# Altium footprint library Sheet1.PcbLib: 42 footprints (part 3 of 3)
Each footprint in its own frame and in the unit in brackets; x right, y up, seen from the top. Pads: shape width x height; smd on the part's side, far side on the other; paste and mask are expansions set on the pad; w line width, h text height; cw(c..) or ccw(c..) is an arc to the next point about the centre after c.
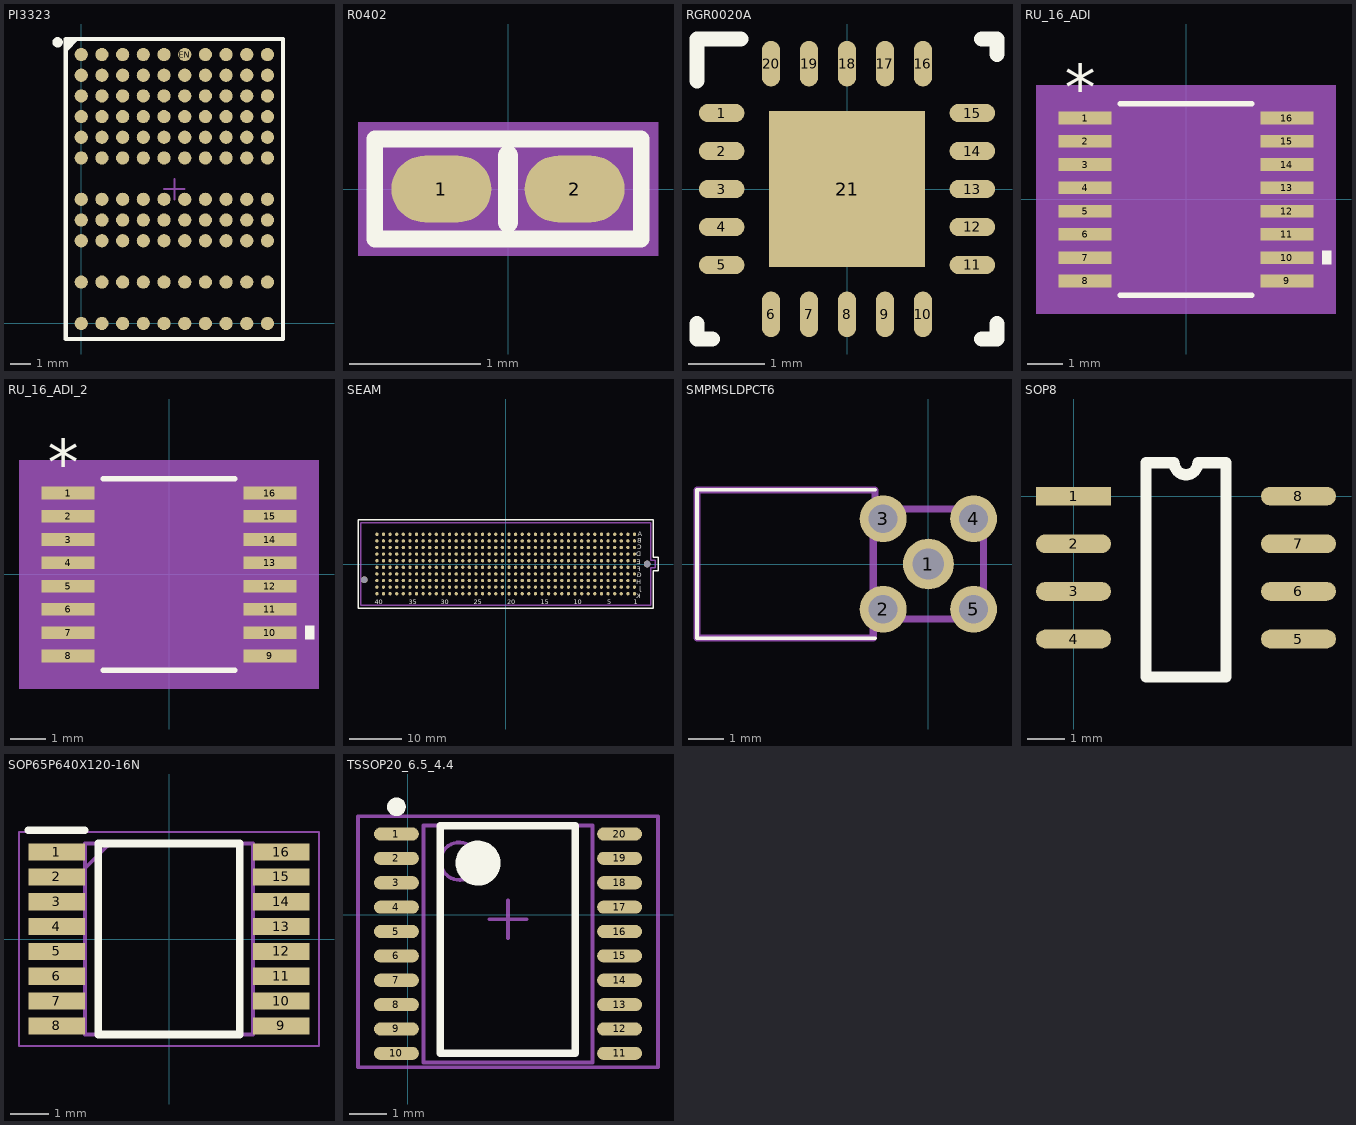
[diagram p2: the footprints below, top view; thin cyan lines are the x and y axes]

## PI3323 [mm] "BGA110"
height 1.2
pads (110):
  round 0.64 smd: COMP(1,13) EAIN(0,12) EAO(0,13) EN(5,13) PGND(0,2) PGND(1,2) PGND(1,9) PGND(2,2) PGND(2,8) PGND(2,9) PGND(2,10) PGND(3,2) PGND(3,8) PGND(3,9) PGND(3,10) PGND(4,2) PGND(4,8) PGND(4,9) PGND(4,10) PGND(5,2) PGND(5,8) PGND(5,9) PGND(5,10) PGND(5,11) PGND(5,12) PGND(6,2) PGND(6,8) PGND(6,9) PGND(6,10) PGND(6,11) PGND(6,12) PGND(7,2) PGND(7,8) PGND(7,9) PGND(7,10) PGND(7,11) PGND(7,12) PGND(8,2) PGND(8,8) PGND(8,9) PGND(8,10) PGND(8,11) PGND(8,12) PGND(9,2) PGND(9,8) PWRGD(6,13) SGND(1,10) SGND(1,11) SGND(1,12) SGND(2,11) SGND(2,12) SGND(3,11) SGND(3,12) SGND(3,13) SGND(4,11) SGND(4,12) SYNCI(9,10) SYNCO(9,11) TEST(4,13) TEST(7,13) TEST(8,13) TEST(9,12) TEST(9,13) TRK(2,13) VDIFF(0,11) VDR(9,9) VIN(0,4) VIN(0,5) VIN(0,6) VIN(1,4) VIN(1,5) VIN(1,6) VIN(2,4) VIN(2,5) VIN(2,6) VIN(3,4) VIN(3,5) VIN(3,6) VIN(4,4) VIN(4,5) VIN(4,6) VIN(5,4) VIN(5,5) VIN(5,6) VIN(6,4) VIN(6,5) VIN(6,6) VIN(7,4) VIN(7,5) VIN(7,6) VIN(8,4) VIN(8,5) VIN(8,6) VIN(9,4) VIN(9,5) VIN(9,6) VOUT(0,8) VOUT(1,8) VS1(0,0) VS1(1,0) VS1(2,0) VS1(3,0) VS1(4,0) VS1(5,0) VS1(6,0) VS1(7,0) VS1(8,0) VS1(9,0) VSN(0,10) VSP(0,9)
Top Overlay:
  circle w0.25: c-1.143,13.589 r0.125
  region: -0.093,13.75 -0.699,13.144 -0.699,13.75
  lines w0.2: -0.75,-0.75 -0.75,13.75 9.75,13.75 9.75,-0.75 -0.75,-0.75
Mechanical 13:
  lines w0.1: -0.757,-0.75 9.75,-0.75 9.75,13.75 -0.757,13.75 -0.757,-0.75
Mechanical 15:
  lines w0.05: -0.755,-0.75 9.75,-0.75 9.75,13.75 -0.755,13.75 -0.755,-0.75
  lines w0.1: 4,6.5 5,6.5 ; 4.5,5.985 4.5,6.985
3D body: height 1.2, standoff 0, extent -0.758,-0.75 9.75,13.75

## R0402 [mil] "R0402"
pads (2):
  oval 30x20 smd: 1(-20,0) 2(20,0)
Top Overlay:
  lines w5: -40,-15 -40,15 40,15 40,-15 -40,-15
  lines w6: 0,-10 0,10
Mechanical 5:
  lines w5: -40,-15 -40,15 40,15 40,-15 -40,-15
  lines w6: 0,-10 0,10
Mechanical 14:
  text "1" at -10,0 h25
  text "2" at 30,0 h25
Mechanical 16:
  region: -37,-12 37,-12 37,12 -37,12
  pour cut-out: 45,-20 45,20 -45,20 -45,-20
  lines w1: -20,-10 -20,10 20,10 20,-10 -20,-10
  lines w5: -40,-15 -40,15 40,15 40,-15 -40,-15
  lines w6: 0,-10 0,10
3D body: height 150, standoff 0, extent -37,-12 37,12

## RGR0020A [mm]
pads (21):
  oval 0.6x0.24 smd: 1(-1.65,1) 2(-1.65,0.5) 3(-1.65,0) 4(-1.65,-0.5) 5(-1.65,-1) 11(1.65,-1) 12(1.65,-0.5) 13(1.65,0) 14(1.65,0.5) 15(1.65,1)
  oval 0.24x0.6 smd: 6(-1,-1.65) 7(-0.5,-1.65) 8(0,-1.65) 9(0.5,-1.65) 10(1,-1.65) 16(1,1.65) 17(0.5,1.65) 18(0,1.65) 19(-0.5,1.65) 20(-1,1.65)
  rect 2.05x2.05 smd: 21(0,0)
Top Overlay:
  lines w0.2: -1.975,-1.775 -1.975,-1.975 -1.775,-1.975 ; -1.975,1.425 -1.975,1.975 -1.4,1.975 ; 1.775,-1.975 1.975,-1.975 1.975,-1.775 ; 1.775,1.975 1.975,1.975 1.975,1.775

## RU_16_ADI [mil]
pads (16):
  rect 58x14 smd paste+0 mask+0: 1(-111,89.57) 2(-111,63.98) 3(-111,38.39) 4(-111,12.8) 5(-111,-12.8) 6(-111,-38.39) 7(-111,-63.98) 8(-111,-89.57) 9(111,-89.57) 10(111,-63.98) 11(111,-38.39) 12(111,-12.8) 13(111,12.8) 14(111,38.39) 15(111,63.98) 16(111,89.57)
Top Overlay:
  region: 150,-56.48 160,-56.48 160,-71.48 150,-71.48
  lines w6: -72.42,-105.5 72.42,-105.5 ; -72.42,105.5 72.42,105.5
  text "*" at -133.5,98.57 h50
Mechanical 5:
  region: 165,-125.5 -165,-125.5 -165,125.5 165,125.5
Mechanical 13:
  lines w0: -12,100.5 ccw(c0,100.5) 12,100.5
  lines w1: -126,-95.57 -88.5,-95.57 -88.5,-83.57 -126,-83.57 -126,-95.57 ; -126,-69.98 -88.5,-69.98 -88.5,-57.98 -126,-57.98 -126,-69.98 ; -126,-44.39 -88.5,-44.39 -88.5,-32.39 -126,-32.39 -126,-44.39 ; -126,-18.8 -88.5,-18.8 -88.5,-6.8 -126,-6.8 -126,-18.8 ; -126,6.8 -88.5,6.8 -88.5,18.8 -126,18.8 -126,6.8 ; -126,32.39 -88.5,32.39 -88.5,44.39 -126,44.39 -126,32.39 ; -126,57.98 -88.5,57.98 -88.5,69.98 -126,69.98 -126,57.98 ; -126,83.57 -88.5,83.57 -88.5,95.57 -126,95.57 -126,83.57 ; -88.5,-100.5 -88.5,100.5 88.5,100.5 88.5,-100.5 -88.5,-100.5 ; 88.5,-95.57 126,-95.57 126,-83.57 88.5,-83.57 88.5,-95.57 ; 88.5,-69.98 126,-69.98 126,-57.98 88.5,-57.98 88.5,-69.98 ; 88.5,-44.39 126,-44.39 126,-32.39 88.5,-32.39 88.5,-44.39 ; 88.5,-18.8 126,-18.8 126,-6.8 88.5,-6.8 88.5,-18.8 ; 88.5,6.8 126,6.8 126,18.8 88.5,18.8 88.5,6.8 ; 88.5,32.39 126,32.39 126,44.39 88.5,44.39 88.5,32.39 ; 88.5,57.98 126,57.98 126,69.98 88.5,69.98 88.5,57.98 ; 88.5,83.57 126,83.57 126,95.57 88.5,95.57 88.5,83.57
  text "*" at -86,47.5 h50
Mechanical 15:
  region: -98.5,-106.57 -150,-106.57 -150,106.57 -98.5,106.57 -98.5,110.5 98.5,110.5 98.5,106.57 150,106.57 150,-106.57 98.5,-106.57 98.5,-110.5 -98.5,-110.5
  lines w6: -150,-106.57 -98.5,-106.57 -98.5,-110.5 98.5,-110.5 98.5,-106.57 150,-106.57 150,106.57 98.5,106.57 98.5,110.5 -98.5,110.5 -98.5,106.57 -150,106.57 -150,-106.57
3D body "RU_16_ADI.step": height 47.09, standoff 0, extent -125.98,-100.51 125.98,100.51

## RU_16_ADI_2 [mil]
pads (16):
  rect 58x14 smd paste+0 mask+0: 1(-111,89.57) 2(-111,63.98) 3(-111,38.39) 4(-111,12.8) 5(-111,-12.8) 6(-111,-38.39) 7(-111,-63.98) 8(-111,-89.57) 9(111,-89.57) 10(111,-63.98) 11(111,-38.39) 12(111,-12.8) 13(111,12.8) 14(111,38.39) 15(111,63.98) 16(111,89.57)
Top Overlay:
  region: 150,-56.48 160,-56.48 160,-71.48 150,-71.48
  lines w6: -72.42,-105.5 72.42,-105.5 ; -72.42,105.5 72.42,105.5
  text "*" at -133.5,98.57 h50
Mechanical 5:
  region: 165,-125.5 -165,-125.5 -165,125.5 165,125.5
Mechanical 13:
  lines w0: -12,100.5 ccw(c0,100.5) 12,100.5
  lines w1: -126,-95.57 -126,-83.57 -88.5,-83.57 -88.5,-95.57 -126,-95.57 ; -126,-69.98 -126,-57.98 -88.5,-57.98 -88.5,-69.98 -126,-69.98 ; -126,-44.39 -126,-32.39 -88.5,-32.39 -88.5,-44.39 -126,-44.39 ; -126,-18.8 -126,-6.8 -88.5,-6.8 -88.5,-18.8 -126,-18.8 ; -126,6.8 -126,18.8 -88.5,18.8 -88.5,6.8 -126,6.8 ; -126,32.39 -126,44.39 -88.5,44.39 -88.5,32.39 -126,32.39 ; -126,57.98 -126,69.98 -88.5,69.98 -88.5,57.98 -126,57.98 ; -126,83.57 -126,95.57 -88.5,95.57 -88.5,83.57 -126,83.57 ; -88.5,-100.5 88.5,-100.5 88.5,100.5 -88.5,100.5 -88.5,-100.5 ; 88.5,-95.57 88.5,-83.57 126,-83.57 126,-95.57 88.5,-95.57 ; 88.5,-69.98 88.5,-57.98 126,-57.98 126,-69.98 88.5,-69.98 ; 88.5,-44.39 88.5,-32.39 126,-32.39 126,-44.39 88.5,-44.39 ; 88.5,-18.8 88.5,-6.8 126,-6.8 126,-18.8 88.5,-18.8 ; 88.5,6.8 88.5,18.8 126,18.8 126,6.8 88.5,6.8 ; 88.5,32.39 88.5,44.39 126,44.39 126,32.39 88.5,32.39 ; 88.5,57.98 88.5,69.98 126,69.98 126,57.98 88.5,57.98 ; 88.5,83.57 88.5,95.57 126,95.57 126,83.57 88.5,83.57
  text "*" at -86,47.5 h50
Mechanical 15:
  region: -98.5,-106.57 -150,-106.57 -150,106.57 -98.5,106.57 -98.5,110.5 98.5,110.5 98.5,106.57 150,106.57 150,-106.57 98.5,-106.57 98.5,-110.5 -98.5,-110.5
  lines w6: -150,-106.57 -150,106.57 -98.5,106.57 -98.5,110.5 98.5,110.5 98.5,106.57 150,106.57 150,-106.57 98.5,-106.57 98.5,-110.5 -98.5,-110.5 -98.5,-106.57 -150,-106.57
3D body "RU_16_ADI.step": height 47.09, standoff 0, extent -125.98,-100.51 125.98,100.51

## SEAM [mm]
pads (402):
  round 1.27 hole 1.27 unplated: 401(27.191,0) 402(-27.191,-3.048)
  round 0.64 smd: A1(24.765,5.715) A2(23.495,5.715) A3(22.225,5.715) A4(20.955,5.715) A5(19.685,5.715) A6(18.415,5.715) A7(17.145,5.715) A8(15.875,5.715) A9(14.605,5.715) A10(13.335,5.715) A11(12.065,5.715) A12(10.795,5.715) A13(9.525,5.715) A14(8.255,5.715) A15(6.985,5.715) A16(5.715,5.715) A17(4.445,5.715) A18(3.175,5.715) A19(1.905,5.715) A20(0.635,5.715) A21(-0.635,5.715) A22(-1.905,5.715) A23(-3.175,5.715) A24(-4.445,5.715) A25(-5.715,5.715) A26(-6.985,5.715) A27(-8.255,5.715) A28(-9.525,5.715) A29(-10.795,5.715) A30(-12.065,5.715) A31(-13.335,5.715) A32(-14.605,5.715) A33(-15.875,5.715) A34(-17.145,5.715) A35(-18.415,5.715) A36(-19.685,5.715) A37(-20.955,5.715) A38(-22.225,5.715) A39(-23.495,5.715) A40(-24.765,5.715) B1(24.765,4.445) B2(23.495,4.445) B3(22.225,4.445) B4(20.955,4.445) B5(19.685,4.445) B6(18.415,4.445) B7(17.145,4.445) B8(15.875,4.445) B9(14.605,4.445) B10(13.335,4.445) B11(12.065,4.445) B12(10.795,4.445) B13(9.525,4.445) B14(8.255,4.445) B15(6.985,4.445) B16(5.715,4.445) B17(4.445,4.445) B18(3.175,4.445) B19(1.905,4.445) B20(0.635,4.445) B21(-0.635,4.445) B22(-1.905,4.445) B23(-3.175,4.445) B24(-4.445,4.445) B25(-5.715,4.445) B26(-6.985,4.445) B27(-8.255,4.445) B28(-9.525,4.445) B29(-10.795,4.445) B30(-12.065,4.445) B31(-13.335,4.445) B32(-14.605,4.445) B33(-15.875,4.445) B34(-17.145,4.445) B35(-18.415,4.445) B36(-19.685,4.445) B37(-20.955,4.445) B38(-22.225,4.445) B39(-23.495,4.445) B40(-24.765,4.445) C1(24.765,3.175) C2(23.495,3.175) C3(22.225,3.175) C4(20.955,3.175) C5(19.685,3.175) C6(18.415,3.175) C7(17.145,3.175) C8(15.875,3.175) C9(14.605,3.175) C10(13.335,3.175) C11(12.065,3.175) C12(10.795,3.175) C13(9.525,3.175) C14(8.255,3.175) C15(6.985,3.175) C16(5.715,3.175) C17(4.445,3.175) C18(3.175,3.175) C19(1.905,3.175) C20(0.635,3.175) C21(-0.635,3.175) C22(-1.905,3.175) C23(-3.175,3.175) C24(-4.445,3.175) C25(-5.715,3.175) C26(-6.985,3.175) C27(-8.255,3.175) C28(-9.525,3.175) C29(-10.795,3.175) C30(-12.065,3.175) C31(-13.335,3.175) C32(-14.605,3.175) C33(-15.875,3.175) C34(-17.145,3.175) C35(-18.415,3.175) C36(-19.685,3.175) C37(-20.955,3.175) C38(-22.225,3.175) C39(-23.495,3.175) C40(-24.765,3.175) D1(24.765,1.905) D2(23.495,1.905) D3(22.225,1.905) D4(20.955,1.905) D5(19.685,1.905) D6(18.415,1.905) D7(17.145,1.905) D8(15.875,1.905) D9(14.605,1.905) D10(13.335,1.905) D11(12.065,1.905) D12(10.795,1.905) D13(9.525,1.905) D14(8.255,1.905) D15(6.985,1.905) D16(5.715,1.905) D17(4.445,1.905) D18(3.175,1.905) D19(1.905,1.905) D20(0.635,1.905) D21(-0.635,1.905) D22(-1.905,1.905) D23(-3.175,1.905) D24(-4.445,1.905) D25(-5.715,1.905) D26(-6.985,1.905) D27(-8.255,1.905) D28(-9.525,1.905) D29(-10.795,1.905) D30(-12.065,1.905) D31(-13.335,1.905) D32(-14.605,1.905) D33(-15.875,1.905) D34(-17.145,1.905) D35(-18.415,1.905) D36(-19.685,1.905) D37(-20.955,1.905) D38(-22.225,1.905) D39(-23.495,1.905) D40(-24.765,1.905) E1(24.765,0.635) E2(23.495,0.635) E3(22.225,0.635) E4(20.955,0.635) E5(19.685,0.635) E6(18.415,0.635) E7(17.145,0.635) E8(15.875,0.635) E9(14.605,0.635) E10(13.335,0.635) E11(12.065,0.635) E12(10.795,0.635) E13(9.525,0.635) E14(8.255,0.635) E15(6.985,0.635) E16(5.715,0.635) E17(4.445,0.635) E18(3.175,0.635) E19(1.905,0.635) E20(0.635,0.635) E21(-0.635,0.635) E22(-1.905,0.635) E23(-3.175,0.635) E24(-4.445,0.635) E25(-5.715,0.635) E26(-6.985,0.635) E27(-8.255,0.635) E28(-9.525,0.635) E29(-10.795,0.635) E30(-12.065,0.635) E31(-13.335,0.635) E32(-14.605,0.635) E33(-15.875,0.635) E34(-17.145,0.635) E35(-18.415,0.635) E36(-19.685,0.635) E37(-20.955,0.635) E38(-22.225,0.635) E39(-23.495,0.635) E40(-24.765,0.635) F1(24.765,-0.635) F2(23.495,-0.635) F3(22.225,-0.635) F4(20.955,-0.635) F5(19.685,-0.635) F6(18.415,-0.635) F7(17.145,-0.635) F8(15.875,-0.635) F9(14.605,-0.635) F10(13.335,-0.635) F11(12.065,-0.635) F12(10.795,-0.635) F13(9.525,-0.635) F14(8.255,-0.635) F15(6.985,-0.635) F16(5.715,-0.635) F17(4.445,-0.635) F18(3.175,-0.635) F19(1.905,-0.635) F20(0.635,-0.635) F21(-0.635,-0.635) F22(-1.905,-0.635) F23(-3.175,-0.635) F24(-4.445,-0.635) F25(-5.715,-0.635) F26(-6.985,-0.635) F27(-8.255,-0.635) F28(-9.525,-0.635) F29(-10.795,-0.635) F30(-12.065,-0.635) F31(-13.335,-0.635) F32(-14.605,-0.635) F33(-15.875,-0.635) F34(-17.145,-0.635) F35(-18.415,-0.635) F36(-19.685,-0.635) F37(-20.955,-0.635) F38(-22.225,-0.635) F39(-23.495,-0.635) F40(-24.765,-0.635) G1(24.765,-1.905) G2(23.495,-1.905) G3(22.225,-1.905) G4(20.955,-1.905) G5(19.685,-1.905) G6(18.415,-1.905) G7(17.145,-1.905) G8(15.875,-1.905) G9(14.605,-1.905) G10(13.335,-1.905) G11(12.065,-1.905) G12(10.795,-1.905) G13(9.525,-1.905) G14(8.255,-1.905) G15(6.985,-1.905) G16(5.715,-1.905) G17(4.445,-1.905) G18(3.175,-1.905) G19(1.905,-1.905) G20(0.635,-1.905) G21(-0.635,-1.905) G22(-1.905,-1.905) G23(-3.175,-1.905) G24(-4.445,-1.905) G25(-5.715,-1.905) G26(-6.985,-1.905) G27(-8.255,-1.905) G28(-9.525,-1.905) G29(-10.795,-1.905) G30(-12.065,-1.905) G31(-13.335,-1.905) G32(-14.605,-1.905) G33(-15.875,-1.905) G34(-17.145,-1.905) G35(-18.415,-1.905) G36(-19.685,-1.905) G37(-20.955,-1.905) G38(-22.225,-1.905) G39(-23.495,-1.905) G40(-24.765,-1.905) H1(24.765,-3.175) H2(23.495,-3.175) H3(22.225,-3.175) H4(20.955,-3.175) H5(19.685,-3.175) H6(18.415,-3.175) H7(17.145,-3.175) H8(15.875,-3.175) H9(14.605,-3.175) H10(13.335,-3.175) H11(12.065,-3.175) H12(10.795,-3.175) H13(9.525,-3.175) H14(8.255,-3.175) H15(6.985,-3.175) H16(5.715,-3.175) H17(4.445,-3.175) H18(3.175,-3.175) H19(1.905,-3.175) H20(0.635,-3.175) H21(-0.635,-3.175) H22(-1.905,-3.175) H23(-3.175,-3.175) H24(-4.445,-3.175) H25(-5.715,-3.175) H26(-6.985,-3.175) H27(-8.255,-3.175) H28(-9.525,-3.175) H29(-10.795,-3.175) H30(-12.065,-3.175) H31(-13.335,-3.175) H32(-14.605,-3.175) H33(-15.875,-3.175) H34(-17.145,-3.175) H35(-18.415,-3.175) H36(-19.685,-3.175) H37(-20.955,-3.175) H38(-22.225,-3.175) H39(-23.495,-3.175) H40(-24.765,-3.175) J1(24.765,-4.445) J2(23.495,-4.445) J3(22.225,-4.445) J4(20.955,-4.445) J5(19.685,-4.445) J6(18.415,-4.445) J7(17.145,-4.445) J8(15.875,-4.445) J9(14.605,-4.445) J10(13.335,-4.445) J11(12.065,-4.445) J12(10.795,-4.445) J13(9.525,-4.445) J14(8.255,-4.445) J15(6.985,-4.445) J16(5.715,-4.445) J17(4.445,-4.445) J18(3.175,-4.445) J19(1.905,-4.445) J20(0.635,-4.445) J21(-0.635,-4.445) J22(-1.905,-4.445) J23(-3.175,-4.445) J24(-4.445,-4.445) J25(-5.715,-4.445) J26(-6.985,-4.445) J27(-8.255,-4.445) J28(-9.525,-4.445) J29(-10.795,-4.445) J30(-12.065,-4.445) J31(-13.335,-4.445) J32(-14.605,-4.445) J33(-15.875,-4.445) J34(-17.145,-4.445) J35(-18.415,-4.445) J36(-19.685,-4.445) J37(-20.955,-4.445) J38(-22.225,-4.445) J39(-23.495,-4.445) J40(-24.765,-4.445) K1(24.765,-5.715) K2(23.495,-5.715) K3(22.225,-5.715) K4(20.955,-5.715) K5(19.685,-5.715) K6(18.415,-5.715) K7(17.145,-5.715) K8(15.875,-5.715) K9(14.605,-5.715) K10(13.335,-5.715) K11(12.065,-5.715) K12(10.795,-5.715) K13(9.525,-5.715) K14(8.255,-5.715) K15(6.985,-5.715) K16(5.715,-5.715) K17(4.445,-5.715) K18(3.175,-5.715) K19(1.905,-5.715) K20(0.635,-5.715) K21(-0.635,-5.715) K22(-1.905,-5.715) K23(-3.175,-5.715) K24(-4.445,-5.715) K25(-5.715,-5.715) K26(-6.985,-5.715) K27(-8.255,-5.715) K28(-9.525,-5.715) K29(-10.795,-5.715) K30(-12.065,-5.715) K31(-13.335,-5.715) K32(-14.605,-5.715) K33(-15.875,-5.715) K34(-17.145,-5.715) K35(-18.415,-5.715) K36(-19.685,-5.715) K37(-20.955,-5.715) K38(-22.225,-5.715) K39(-23.495,-5.715) K40(-24.765,-5.715)
Top Overlay:
  lines w0.254: -28.397,-8.484 28.397,-8.484 28.397,-1.27 29.286,-1.27 29.286,1.27 28.397,1.27 28.397,8.484 -28.397,8.484 -28.397,-8.484
  text "A" at 26.226,5.346 h0.89
  text "B" at 26.147,4.119 h0.89
  text "K" at 26.013,-6.587 h0.89
  text "C" at 26.124,2.827 h0.89
  text "D" at 26.048,1.475 h0.89
  text "E" at 25.947,-0.074 h0.89
  text "F" at 26.002,-1.403 h0.89
  text "G" at 26.17,-2.561 h0.89
  text "H" at 26.104,-3.932 h0.89
  text "J" at 26.104,-5.172 h0.89
  text "40" at -25.146,-7.747 h0.89
  text "35" at -18.669,-7.747 h0.89
  text "30" at -12.446,-7.747 h0.89
  text "25" at -6.096,-7.747 h0.89
  text "20" at 0.254,-7.747 h0.89
  text "15" at 6.731,-7.747 h0.89
  text "10" at 13.081,-7.747 h0.89
  text "5" at 19.558,-7.747 h0.89
  text "1" at 24.641,-7.702 h0.89
Mechanical 5:
  lines w0.254: -27.889,-7.976 -27.889,7.976 27.889,7.976 27.889,0.762 28.778,0.762 28.778,-0.762 27.889,-0.762 27.889,-7.976 -27.889,-7.976

## SMPMSLDPCT6 [mm]
pads (5):
  round 1.43 hole 0.88: 1(0,0)
  round 1.316 hole 0.81: 2(-1.27,-1.27) 3(-1.27,1.27) 4(1.27,1.27) 5(1.27,-1.27)
Top Overlay:
  lines w0.1: -1.5,-2.08 -6.5,-2.08 -6.5,2.08 -1.5,2.08
Mechanical 13:
  lines w0.2: -1.55,-1.27 -1.55,-2.08 -6.5,-2.08 -6.5,2.08 -1.5,2.08 -1.5,1.5 ; -1.55,-1.55 -1.55,1.55 1.55,1.55 1.55,-1.55 -1.55,-1.55

## SOP8 [mm]
pads (8):
  rect 2x0.5 smd: 1(0,0)
  oval 2x0.5 smd: 2(0,-1.27) 3(0,-2.54) 4(0,-3.81) 5(6,-3.81) 6(6,-2.54) 7(6,-1.27) 8(6,0)
Top Overlay:
  lines w0.3: 1.935,-4.826 1.935,0.889 2.682,0.889 ccw(c3,0.889) 3.317,0.889 4.065,0.889 4.065,-4.826 1.935,-4.826

## SOP65P640X120-16N [mm]
height 1.2
pads (16):
  rect 1.475x0.45 smd: 1(-2.938,2.275) 2(-2.938,1.625) 3(-2.938,0.975) 4(-2.938,0.325) 5(-2.938,-0.325) 6(-2.938,-0.975) 7(-2.938,-1.625) 8(-2.938,-2.275) 9(2.938,-2.275) 10(2.938,-1.625) 11(2.938,-0.975) 12(2.938,-0.325) 13(2.938,0.325) 14(2.938,0.975) 15(2.938,1.625) 16(2.938,2.275)
Top Overlay:
  lines w0.2: -3.675,2.85 -2.2,2.85 ; -1.85,-2.5 -1.85,2.5 1.85,2.5 1.85,-2.5 -1.85,-2.5
Mechanical 13:
  lines w0.1: -2.2,1.85 -1.55,2.5 ; -2.2,-2.5 -2.2,2.5 2.2,2.5 2.2,-2.5 -2.2,-2.5
Mechanical 15:
  lines w0.05: -3.925,-2.8 -3.925,2.8 3.925,2.8 3.925,-2.8 -3.925,-2.8
3D body "DS90LV047ATMTCX_NOPB.stp": height 1.2, standoff 0, extent -3.2,-2.5 3.2,2.5

## TSSOP20_6.5_4.4 [mm]
height 0.35
pads (20):
  oval 1.2x0.35 smd: 1(-0.305,2.159) 2(-0.305,1.509) 3(-0.305,0.859) 4(-0.305,0.209) 5(-0.305,-0.441) 6(-0.305,-1.091) 7(-0.305,-1.741) 8(-0.305,-2.391) 9(-0.305,-3.041) 10(-0.305,-3.691) 11(5.645,-3.691) 12(5.645,-3.041) 13(5.645,-2.391) 14(5.645,-1.741) 15(5.645,-1.091) 16(5.645,-0.441) 17(5.645,0.209) 18(5.645,0.859) 19(5.645,1.509) 20(5.645,2.159)
Top Overlay:
  circle w0.6: c1.87,1.384 r0.3
  circle w0.25: c-0.305,2.884 r0.125
  lines w0.2: 0.87,-3.683 4.47,-3.683 4.47,2.384 0.87,2.384 0.87,-3.683
Mechanical 13:
  circle w0.1: c1.37,1.434 r0.5
  lines w0.1: 0.42,-3.937 4.92,-3.937 4.92,2.384 0.42,2.384 0.42,-3.937
Mechanical 15:
  lines w0.1: 2.17,-0.116 3.17,-0.116 ; 2.67,-0.616 2.67,0.384 ; -1.33,-4.064 6.67,-4.064 6.67,2.634 -1.33,2.634 -1.33,-4.064
3D body: height 2.65, standoff 0.1, extent 0.42,-3.683 4.92,2.384